# Altium footprint library PCB.PcbLib: 101 footprints (part 2 of 7)
Each footprint in its own frame and in the unit in brackets; x right, y up, seen from the top. Pads: shape width x height; smd on the part's side, far side on the other; paste and mask are expansions set on the pad; w line width, h text height; cw(c..) or ccw(c..) is an arc to the next point about the centre after c.
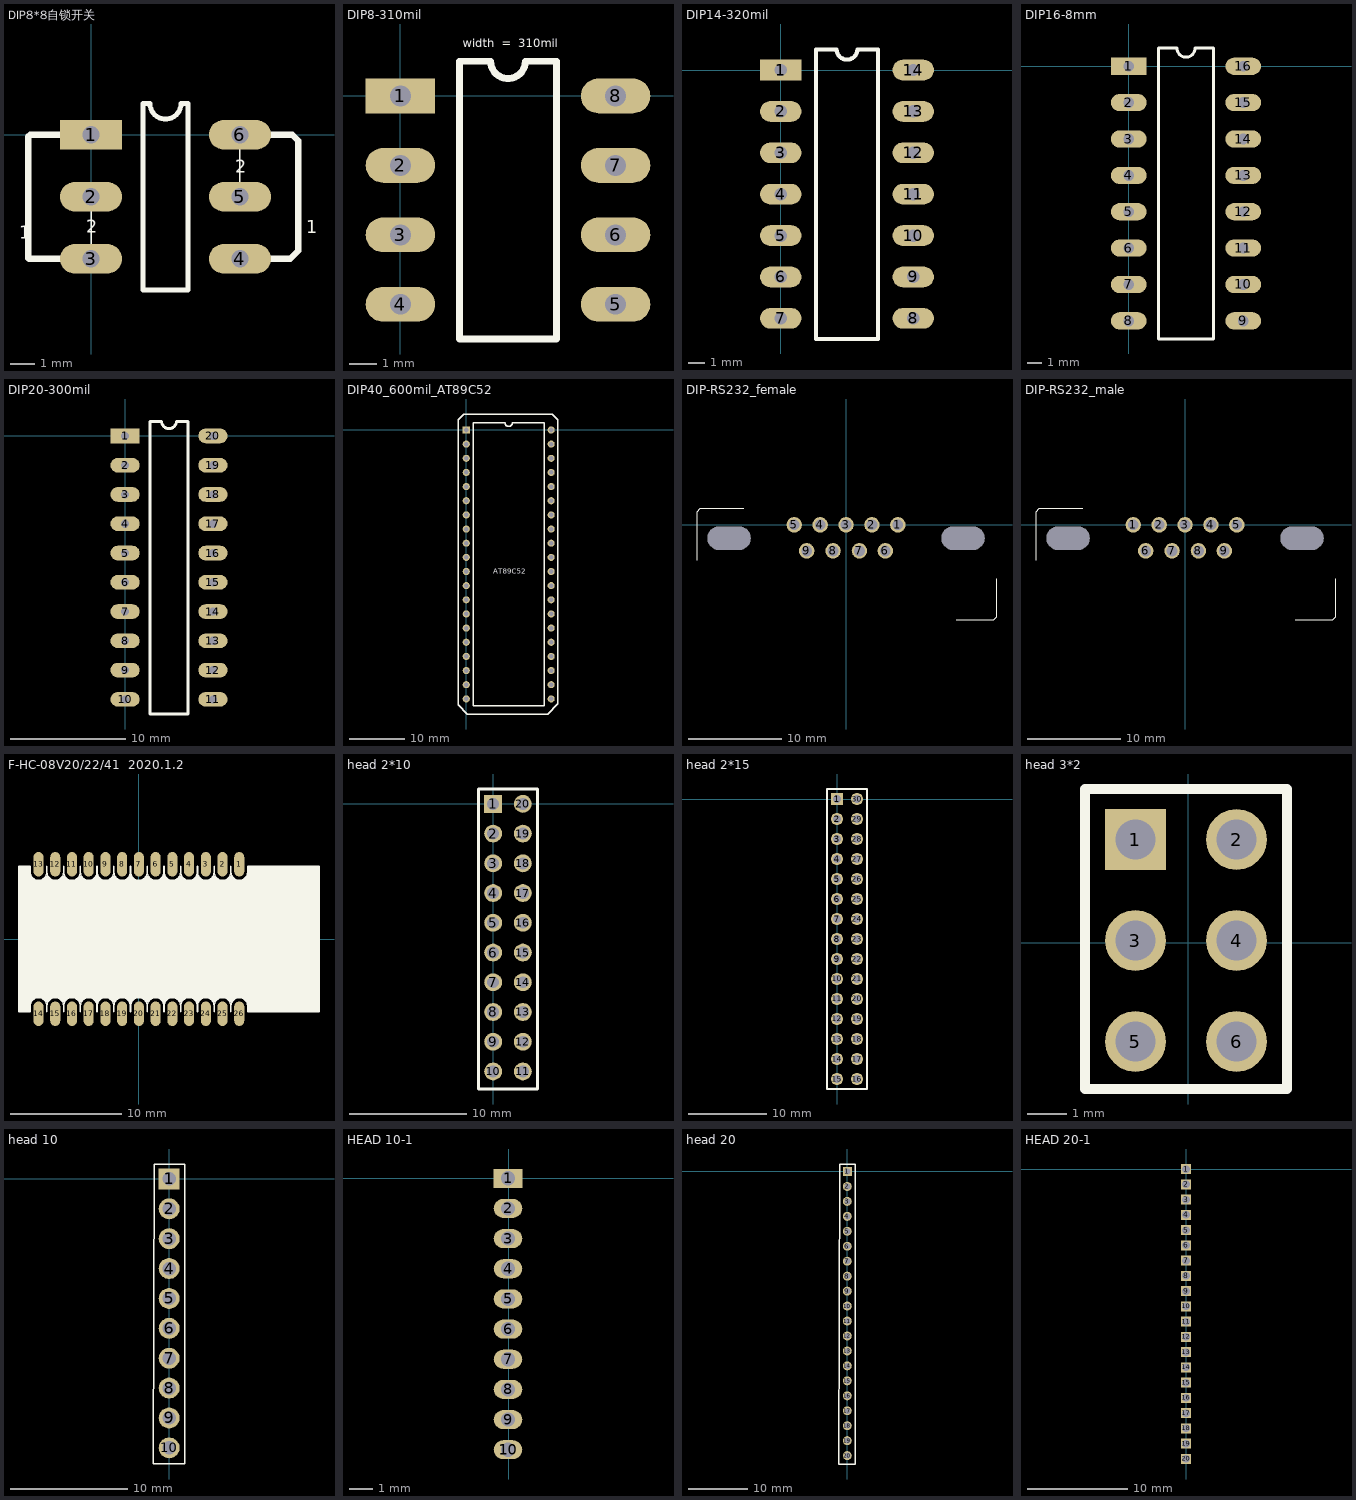
[diagram p1: the footprints below, top view; thin cyan lines are the x and y axes]

## DIP8*8自锁开关 [mm]
pads (6):
  rect 2.5x1.2 hole 0.7: 1(0,0)
  oval 2.5x1.2 hole 0.7: 2(0,-2.5) 3(0,-5) 4(6,-5) 5(6,-2.5) 6(6,0)
Top Overlay:
  lines w0.051: 0,-5 0,-2.5 ; 6,-2.675 6,-0.175
  lines w0.2: 2.085,-6.25 3.915,-6.25 3.915,1.25 3.625,1.25 cw(c3,1.25) 2.375,1.25 2.085,1.25 2.085,-6.25
  lines w0.254: 0,-5 -2.5,-5 -2.525,-4.975 -2.525,-0.075 -2.45,0 0,0 ; 6,-5 8.025,-5 8.35,-4.675 8.35,-0.25 8.1,0 6,0
  text "1" at 8.675,-3.975 h0.51
  text "2" at 5.815,-1.525 h0.51
  text "1" at -2.9,-4.2 h0.51
  text "2" at -0.2,-3.95 h0.51
Bottom Overlay:
  lines w0.254: 6,-5 6.125,-5.125

## DIP8-310mil [mil]
pads (8):
  rect 100x50 hole 30: 1(0,0)
  oval 100x50 hole 30: 2(0,-100) 3(0,-200) 4(0,-300) 5(310,-300) 6(310,-200) 7(310,-100) 8(310,0)
Top Overlay:
  lines w10: 85,-350 225,-350 225,50 180,50 cw(c155,50) 130,50 85,50 85,-350
  text "width  =  310mil" at 90,70 h12

## DIP14-320mil [mil] "宽度320mil"
pads (14):
  rect 100x50 hole 30: 1(0,0)
  oval 100x50 hole 30: 2(0,-100) 3(0,-200) 4(0,-300) 5(0,-400) 6(0,-500) 7(0,-600) 8(320,-600) 9(320,-500) 10(320,-400) 11(320,-300) 12(320,-200) 13(320,-100) 14(320,0)
Top Overlay:
  lines w10: 85,-650 235,-650 235,50 185,50 cw(c160,50) 135,50 85,50 85,-650

## DIP16-8mm [mm] "宽度为8mm"
pads (16):
  rect 2.5x1.2 hole 0.762: 1(0,0)
  oval 2.5x1.2 hole 0.762: 2(0,-2.54) 3(0,-5.08) 4(0,-7.62) 5(0,-10.16) 6(0,-12.7) 7(0,-15.24) 8(0,-17.78) 9(8,-17.78) 10(8,-15.24) 11(8,-12.7) 12(8,-10.16) 13(8,-7.62) 14(8,-5.08) 15(8,-2.54) 16(8,0)
Top Overlay:
  lines w0.2: 2.085,-19.05 2.085,1.27 3.365,1.27 ccw(c4,1.27) 4.635,1.27 5.915,1.27 5.915,-19.05 2.085,-19.05

## DIP20-300mil [mil] "宽度7.62mm"
pads (20):
  rect 100x50 hole 28: 1(0,0)
  oval 100x50 hole 28: 2(0,-100) 3(0,-200) 4(0,-300) 5(0,-400) 6(0,-500) 7(0,-600) 8(0,-700) 9(0,-800) 10(0,-900) 11(300,-900) 12(300,-800) 13(300,-700) 14(300,-600) 15(300,-500) 16(300,-400) 17(300,-300) 18(300,-200) 19(300,-100) 20(300,0)
Top Overlay:
  lines w10: 85,-950 215,-950 215,50 175,50 cw(c150,50) 125,50 85,50 85,-950

## DIP40_600mil_AT89C52 [mil] "宽度600mil"
height 354.33
pads (40):
  rect 50x50 hole 32: 1(0,0)
  round 50 hole 32: 2(0,-100) 3(0,-200) 4(0,-300) 5(0,-400) 6(0,-500) 7(0,-600) 8(0,-700) 9(0,-800) 10(0,-900) 11(0,-1000) 12(0,-1100) 13(0,-1200) 14(0,-1300) 15(0,-1400) 16(0,-1500) 17(0,-1600) 18(0,-1700) 19(0,-1800) 20(0,-1900) 21(600,-1900) 22(600,-1800) 23(600,-1700) 24(600,-1600) 25(600,-1500) 26(600,-1400) 27(600,-1300) 28(600,-1200) 29(600,-1100) 30(600,-1000) 31(600,-900) 32(600,-800) 33(600,-700) 34(600,-600) 35(600,-500) 36(600,-400) 37(600,-300) 38(600,-200) 39(600,-100) 40(600,0)
Top Overlay:
  lines w10: -58,-1941 -58,74 -23,109 -19,113 0,113 608,113 648,73 648,-1936 577,-2007 8,-2007 -58,-1941 ; 50,-1950 50,50 275,50 ccw(c300,50) 325,50 550,50 550,-1950 50,-1950
  text "AT89C52" at 190,-1030 h60

## DIP-RS232_female [mil] "RS232母插头"
pads (11):
  round 65 hole 45: 1(218,0) 2(109,0) 3(0,0) 4(-109,0) 5(-218,0) 6(165.3,-109.4) 7(56.3,-109.4) 8(-54.7,-109.4) 9(-165.7,-109.4)
  round 0 hole 98.43 slot 181.1 at 0 deg unplated: ""(-492.13,-56) ""(492.13,-56)
Top Overlay:
  lines w5: -627,-149 -627,56 -613,70 -431,70 ; 463,-399 622,-399 635,-386 635,-227
Top Solder:
  pour cut-out: -595,14 -377,14 -360,-3 -360,-107 -380,-127 -594,-127 -614,-107 -614,-5
  pour cut-out: 386,16 604,16 621,-1 621,-105 601,-125 387,-125 367,-105 367,-3
3D body "ALSRobot-DB9-M.STEP": height 521.65, standoff -124.02, extent -602.39,-636.21 598.4,60.64

## DIP-RS232_male [mil] "RS232公插头"
pads (11):
  round 65 hole 45: 1(-218,0) 2(-109,0) 3(0,0) 4(109,0) 5(218,0) 6(-165.7,-109.4) 7(-54.7,-109.4) 8(56.3,-109.4) 9(165.3,-109.4)
  round 0 hole 98.43 slot 181.1 at 0 deg unplated: ""(-492.13,-56) ""(492.13,-56)
Top Overlay:
  lines w5: -627,-149 -627,56 -613,70 -431,70 ; 463,-399 622,-399 635,-386 635,-227
Top Solder:
  pour cut-out: -595,14 -377,14 -360,-3 -360,-107 -380,-127 -594,-127 -614,-107 -614,-5
  pour cut-out: 386,16 604,16 621,-1 621,-105 601,-125 387,-125 367,-105 367,-3
3D body "ALSRobot-DB9-M.STEP": height 521.65, standoff -124.02, extent -602.39,-636.21 598.4,60.64

## F-HC-08V20/22/41  2020.1.2 [mm] "2020.1.2   BLE低功耗蓝牙"
pads (26):
  oval 0.9x2.2 smd: 1(9,6.7) 2(7.5,6.7) 3(6,6.7) 4(4.5,6.7) 5(3,6.7) 6(1.5,6.7) 7(0,6.7) 8(-1.5,6.7) 9(-3,6.7) 10(-4.5,6.7) 11(-6,6.7) 12(-7.5,6.7) 13(-9,6.7) 14(-9,-6.7) 15(-7.5,-6.7) 16(-6,-6.7) 17(-4.5,-6.7) 18(-3,-6.7) 19(-1.5,-6.7) 20(0,-6.7) 21(1.5,-6.7) 22(3,-6.7) 23(4.5,-6.7) 24(6,-6.7) 25(7.5,-6.7) 26(9,-6.7)
Top Overlay:
  rectangle: -9.75,-5.675 -9.6,-5.475
  rectangle: -9.75,-5.475 -9.425,-5.3
  rectangle: -9.75,5.475 -9.6,5.675
  rectangle: -9.75,5.3 -9.425,5.475
  rectangle: -9.75,-5.3 9.75,5.3
  rectangle: 9.75,-6.5 16.15,6.5
  rectangle: -10.75,-6.5 -9.75,6.5
  rectangle: 9.59,-5.66 9.91,-5.4
  rectangle: 9.4,-5.425 10.1,-5.275
  rectangle: 8.09,-5.66 8.41,-5.4
  rectangle: 7.9,-5.425 8.6,-5.275
  rectangle: 6.59,-5.66 6.91,-5.4
  rectangle: 6.4,-5.425 7.1,-5.275
  rectangle: 5.09,-5.66 5.41,-5.4
  rectangle: 4.9,-5.425 5.6,-5.275
  rectangle: 3.59,-5.66 3.91,-5.4
  rectangle: 3.4,-5.425 4.1,-5.275
  rectangle: 2.09,-5.66 2.41,-5.4
  rectangle: 1.9,-5.425 2.6,-5.275
  rectangle: 0.59,-5.66 0.91,-5.4
  rectangle: 0.4,-5.425 1.1,-5.275
  rectangle: -0.91,-5.66 -0.59,-5.4
  rectangle: -1.1,-5.425 -0.4,-5.275
  rectangle: -2.41,-5.66 -2.09,-5.4
  rectangle: -2.6,-5.425 -1.9,-5.275
  rectangle: -3.91,-5.66 -3.59,-5.4
  rectangle: -4.1,-5.425 -3.4,-5.275
  rectangle: -5.41,-5.66 -5.09,-5.4
  rectangle: -5.6,-5.425 -4.9,-5.275
  rectangle: -6.91,-5.66 -6.59,-5.4
  rectangle: -7.1,-5.425 -6.4,-5.275
  rectangle: -8.41,-5.66 -8.09,-5.4
  rectangle: -8.6,-5.425 -7.9,-5.275
  rectangle: 9.59,5.4 9.91,5.66
  rectangle: 9.4,5.275 10.1,5.425
  rectangle: 8.09,5.4 8.41,5.66
  rectangle: 7.9,5.275 8.6,5.425
  rectangle: 6.59,5.4 6.91,5.66
  rectangle: 6.4,5.275 7.1,5.425
  rectangle: 5.09,5.4 5.41,5.66
  rectangle: 4.9,5.275 5.6,5.425
  rectangle: 3.59,5.4 3.91,5.66
  rectangle: 3.4,5.275 4.1,5.425
  rectangle: 2.09,5.4 2.41,5.66
  rectangle: 1.9,5.275 2.6,5.425
  rectangle: 0.59,5.4 0.91,5.66
  rectangle: 0.4,5.275 1.1,5.425
  rectangle: -0.91,5.4 -0.59,5.66
  rectangle: -1.1,5.275 -0.4,5.425
  rectangle: -2.41,5.4 -2.09,5.66
  rectangle: -2.6,5.275 -1.9,5.425
  rectangle: -3.91,5.4 -3.59,5.66
  rectangle: -4.1,5.275 -3.4,5.425
  rectangle: -5.41,5.4 -5.09,5.66
  rectangle: -5.6,5.275 -4.9,5.425
  rectangle: -6.91,5.4 -6.59,5.66
  rectangle: -7.1,5.275 -6.4,5.425
  rectangle: -8.41,5.4 -8.09,5.66
  rectangle: -8.6,5.275 -7.9,5.425
  lines w0.152: -8.25,-5.85 -8.25,-6.5 -8.25,-6 ; 9.75,-6 ccw(c9,-6) 8.25,-6 ccw(c7.5,-6) 6.75,-6 ccw(c6,-6) 5.25,-6 ccw(c4.5,-6) 3.75,-6 ccw(c3,-6) 2.25,-6 ccw(c1.5,-6) 0.75,-6 ccw(c0,-6) -0.75,-6 ccw(c-1.5,-6) -2.25,-6 ccw(c-3,-6) -3.75,-6 ccw(c-4.5,-6) -5.25,-6 ccw(c-6,-6) -6.75,-6 ccw(c-7.5,-6) -8.25,-6 ; 9.75,-5.85 9.75,-6.5 16.15,-6.5 16.15,6.5 9.75,6.5 9.75,6 cw(c9,6) 8.25,6 ; -8.25,-6 ccw(c-9,-6) -9.75,-6 -9.75,-6.5 -10.75,-6.5 -10.75,6.5 -9.75,6.5 -9.75,6 ccw(c-9,6) -8.25,6 ; -8.25,6 ccw(c-7.5,6) -6.75,6 ; -8.25,6 -8.25,6.5 -8.25,6 ; -6.75,6 ccw(c-6,6) -5.25,6 ; -6.75,6 -6.75,6.5 -6.75,6 ; -5.25,6 ccw(c-4.5,6) -3.75,6 ; -5.25,6 -5.25,6.5 -5.25,6 ; -3.75,6 ccw(c-3,6) -2.25,6 ; -3.75,6 -3.75,6.5 -3.75,6 ; -2.25,6 ccw(c-1.5,6) -0.75,6 ; -2.25,6 -2.25,6.5 -2.25,6 ; -0.75,6 ccw(c0,6) 0.75,6 ; -0.75,6 -0.75,6.5 -0.75,6 ; 0.75,6 ccw(c1.5,6) 2.25,6 ; 0.75,6 0.75,6.5 0.75,6 ; 2.25,6 ccw(c3,6) 3.75,6 ; 2.25,6 2.25,6.5 2.25,6 ; 3.75,6 ccw(c4.5,6) 5.25,6 ; 3.75,6 3.75,6.5 3.75,6 ; 5.25,6 ccw(c6,6) 6.75,6 ; 5.25,6 5.25,6.5 5.25,6 ; 6.75,6 ccw(c7.5,6) 8.25,6 ; 6.75,6 6.75,6.5 6.75,6 ; 8.25,6 8.25,6.5 8.25,6 ; -6.75,-6.5 -6.75,-5.85 -6.75,-6.5 ; -5.25,-6.5 -5.25,-5.85 -5.25,-6.5 ; -3.75,-6.5 -3.75,-5.85 -3.75,-6.5 ; -2.25,-6.5 -2.25,-5.85 -2.25,-6.5 ; -0.75,-6.5 -0.75,-5.85 -0.75,-6.5 ; 0.75,-6.5 0.75,-5.85 0.75,-6.5 ; 2.25,-6.5 2.25,-5.85 2.25,-6.5 ; 3.75,-6.5 3.75,-5.85 3.75,-6.5 ; 5.25,-6.5 5.25,-5.85 5.25,-6.5 ; 6.75,-6.5 6.75,-5.85 6.75,-6.5 ; 8.25,-6.5 8.25,-5.85 8.25,-6.5

## head 2*10 [mil]
pads (20):
  rect 60x60 hole 40: 1(-1,0)
  round 60 hole 40: 2(-1,-100) 3(-1,-200) 4(-1,-300) 5(-1,-400) 6(-1,-500) 7(-1,-600) 8(-1,-700) 9(-1,-800) 10(-1,-900) 11(99,-900) 12(99,-800) 13(99,-700) 14(99,-600) 15(99,-500) 16(99,-400) 17(99,-300) 18(99,-200) 19(99,-100) 20(99,0)
Top Overlay:
  lines w10: 24,50 149,50 149,-959 -51,-959 -51,50 74,50
3D body "母排针.STEP": height 374.02, standoff -142.99, extent -52,-158.92 46.43,50.92
3D body "母排针.STEP": height 374.02, standoff -142.99, extent 46.57,-159.84 145,50
3D body "母排针.STEP": height 374.02, standoff -142.99, extent -49.21,-357.92 49.21,-148.07
3D body "母排针.STEP": height 374.02, standoff -142.99, extent -50.21,-554.92 48.21,-345.07
3D body "母排针.STEP": height 374.02, standoff -142.99, extent -51.42,-755.84 47,-546
3D body "母排针.STEP": height 374.02, standoff -142.99, extent -50.43,-959.84 48,-750
3D body "母排针.STEP": height 374.02, standoff -142.99, extent 47.58,-956.84 146,-747
3D body "母排针.STEP": height 374.02, standoff -142.99, extent 47.58,-754.85 146,-545
3D body "母排针.STEP": height 374.02, standoff -142.99, extent 48.57,-553.85 147,-344
3D body "母排针.STEP": height 374.02, standoff -142.99, extent 47.57,-359.84 146,-150

## head 2*15 [mil]
pads (30):
  rect 60x60 hole 40: 1(0,0)
  round 60 hole 40: 2(0,-100) 3(0,-200) 4(0,-300) 5(0,-400) 6(0,-500) 7(0,-600) 8(0,-700) 9(0,-800) 10(0,-900) 11(0,-1000) 12(0,-1100) 13(0,-1200) 14(0,-1300) 15(0,-1400) 16(100,-1400) 17(100,-1300) 18(100,-1200) 19(100,-1100) 20(100,-1000) 21(100,-900) 22(100,-800) 23(100,-700) 24(100,-600) 25(100,-500) 26(100,-400) 27(100,-300) 28(100,-200) 29(100,-100) 30(100,0)
Top Overlay:
  lines w10: 25,50 150,50 150,-1450 -50,-1450 -50,50 75,50

## head 3*2 [mil]
pads (6):
  rect 60x60 hole 40: 1(-52,102)
  round 60 hole 40: 2(48,102) 3(-52,2) 4(48,2) 5(-52,-98) 6(48,-98)
Top Overlay:
  lines w10: -27,152 98,152 98,-145 -102,-145 -102,152 23,152
3D body "User Library-2_54PIN_double.STEP": height 336.22, standoff -118.11, extent -102,54.01 98,154.01
3D body "User Library-2_54PIN_double.STEP": height 336.22, standoff -118.11, extent -104,-45.99 96,54.01
3D body "User Library-2_54PIN_double.STEP": height 336.22, standoff -118.11, extent -104,-145.99 96,-45.99

## head 10 [mil]
pads (10):
  rect 70x70 hole 45: 1(0,0)
  round 70 hole 45: 2(0,-100) 3(0,-200) 4(0,-300) 5(0,-400) 6(0,-500) 7(0,-600) 8(0,-700) 9(0,-800) 10(0,-900)
Top Overlay:
  lines w5: -53,-954 52,-954 52,48 50,50 -50,50 -53,-954

## HEAD 10-1 [mm] "1.27mm 排针 210625"
pads (10):
  rect 1.2x0.8 hole 0.6: 1(-0.025,0)
  oval 1.2x0.8 hole 0.6: 2(-0.025,-1.27) 3(-0.025,-2.54) 4(-0.025,-3.81) 5(-0.025,-5.08) 6(-0.025,-6.35) 7(-0.025,-7.62) 8(-0.025,-8.89) 9(-0.025,-10.16) 10(-0.025,-11.43)

## head 20 [mil]
pads (20):
  rect 60x60 hole 40: 1(0,0)
  round 60 hole 40: 2(0,-100) 3(0,-200) 4(0,-300) 5(0,-400) 6(0,-500) 7(0,-600) 8(0,-700) 9(0,-800) 10(0,-900) 11(0,-1000) 12(0,-1100) 13(0,-1200) 14(0,-1300) 15(0,-1400) 16(0,-1500) 17(0,-1600) 18(0,-1700) 19(0,-1800) 20(0,-1900)
Top Overlay:
  lines w10: -56,-1956 50,-1956 52,-1954 52,48 50,50 -50,50 -56,-1956
3D body "母排针.STEP": height 374.02, standoff -142.99, extent -49.21,-152 49.21,57.84
3D body "母排针.STEP": height 374.02, standoff -142.99, extent -49.21,-361.84 49.21,-152
3D body "母排针.STEP": height 374.02, standoff -142.99, extent -46.21,-560.92 52.21,-351.07
3D body "母排针.STEP": height 374.02, standoff -142.99, extent -47.21,-757.92 51.21,-548.07
3D body "母排针.STEP": height 374.02, standoff -142.99, extent -48.42,-958.84 50,-749
3D body "母排针.STEP": height 374.02, standoff -142.99, extent -47.43,-1162.84 51,-953
3D body "母排针.STEP": height 374.02, standoff -142.99, extent -49.43,-1362.84 49,-1153
3D body "母排针.STEP": height 374.02, standoff -142.99, extent -48.43,-1556.85 50,-1347
3D body "母排针.STEP": height 374.02, standoff -142.99, extent -49.42,-1757.85 49,-1548
3D body "母排针.STEP": height 374.02, standoff -142.99, extent -49.42,-1959.84 49,-1750

## HEAD 20-1 [mil] "邮票孔设计"
pads (20):
  rect 40x40 hole 30: 1(0,0) 2(0,-60) 3(0,-120) 4(0,-180) 5(0,-240) 6(0,-300) 7(0,-360) 8(0,-420) 9(0,-480) 10(0,-540) 11(0,-600) 12(0,-660) 13(0,-720) 14(0,-780) 15(0,-840) 16(0,-900) 17(0,-960) 18(0,-1020) 19(0,-1080) 20(0,-1140)